# Altium footprint library SOP65P640X120-14N.PcbLib: 1 footprints
Each footprint in its own frame and in the unit in brackets; x right, y up, seen from the top. Pads: shape width x height; smd on the part's side, far side on the other; paste and mask are expansions set on the pad; w line width, h text height; cw(c..) or ccw(c..) is an arc to the next point about the centre after c.
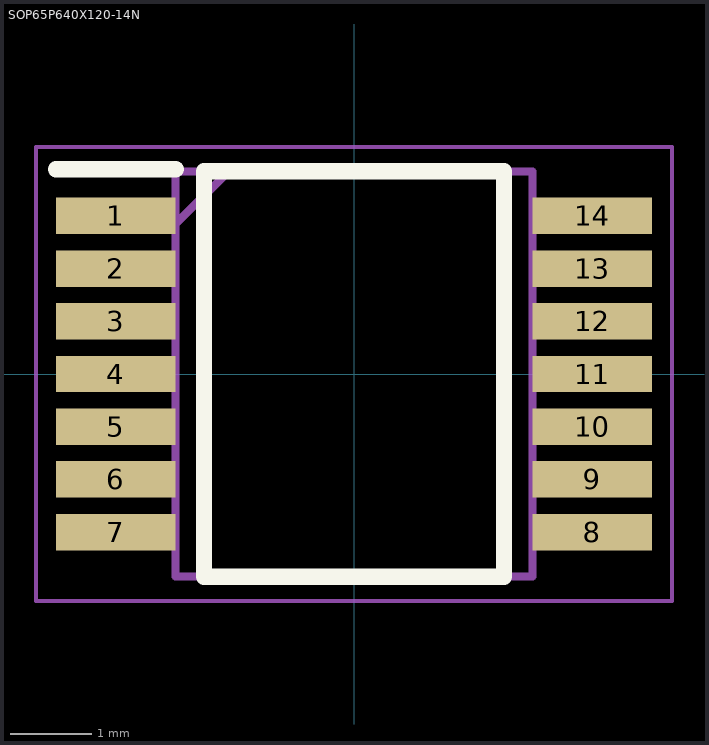
[diagram p0: the footprint, top view; thin cyan lines are the x and y axes]

## SOP65P640X120-14N [mm]
pads (14):
  rect 1.475x0.45 smd: 1(-2.938,1.95) 2(-2.938,1.3) 3(-2.938,0.65) 4(-2.938,0) 5(-2.938,-0.65) 6(-2.938,-1.3) 7(-2.938,-1.95) 8(2.938,-1.95) 9(2.938,-1.3) 10(2.938,-0.65) 11(2.938,0) 12(2.938,0.65) 13(2.938,1.3) 14(2.938,1.95)
L26-Silk Screen Top (Multiple PADS layers...):
  lines w0.2: -3.675,2.525 -2.2,2.525 ; -1.85,-2.5 1.85,-2.5 1.85,2.5 -1.85,2.5 -1.85,-2.5
L15 (Multiple PADS layers...):
  lines w0.1: -2.2,1.85 -1.55,2.5 ; -2.2,-2.5 2.2,-2.5 2.2,2.5 -2.2,2.5 -2.2,-2.5
L20:
  lines w0.05: -3.925,-2.8 3.925,-2.8 3.925,2.8 -3.925,2.8 -3.925,-2.8